# EAGLE library part SI1034CX (library Public)
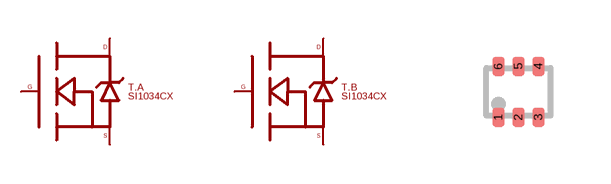
[diagram p119: symbol with the pads of SOT563F; footprint SOT563F]

Designator prefix T; gates .A=MOSFET_N_WITH_BODYDIODE .B=MOSFET_N_WITH_BODYDIODE

## SI1034CX  [SOT563F]
1  .A:S
2  .A:G
3  .B:D
4  .B:S
5  .B:G
6  .A:D

## Footprint SOT563F (pad centres in mm)
SOT563F SC89
smd 0.3 x 0.478: 1 -0.5,-0.638; 2 0,-0.638; 3 0.5,-0.638; 4 0.5,0.638; 5 0,0.638; 6 -0.5,0.638